# EAGLE library part WE-RJ45_74980100000 (library Wurth_Signal & Communications_WE-RJ45_LAN)
WE-RJ45 LAN Through Hole Reflow Characteristics RJ45 designed to use for Pin-in-Paste soldering High mechanical stability through THT pins High Temperature LEDs Extra high standoff for a good thermal airflow Power over Ethernet up to 30 W Compliant with standard: IEEE 802.3u, IEEE 802.3ab, IEEE 802.3af, IEEE 802.3at Applications Suitable for industrial temperatures from –40 °C up to +85 °C Compatible to Industrial Ethernet systems like EtherCAT or Profinet Compliant with most IC’s for Ethernet applications such as Microchip, Texas Instruments, Broadcom, Linear Technology Hubs, Routers, Switches, IP cameras, IoT applications <https://www.we-online.com/components/media/o713596v209%20family-we-rj45-lan-74980xxx.jpg> Details see: www.we-online.com/components/products/WE-LAN-RJ45_THR <www.we-online.com/catalog/WE-LAN-RJ45_THR/?utm_source=eagle_model&utm_medium=description_link&utm_campaign=eisos_eagle> Updated By Ella Wu 2019-11-06 2019 (C) Wurth Elektronik
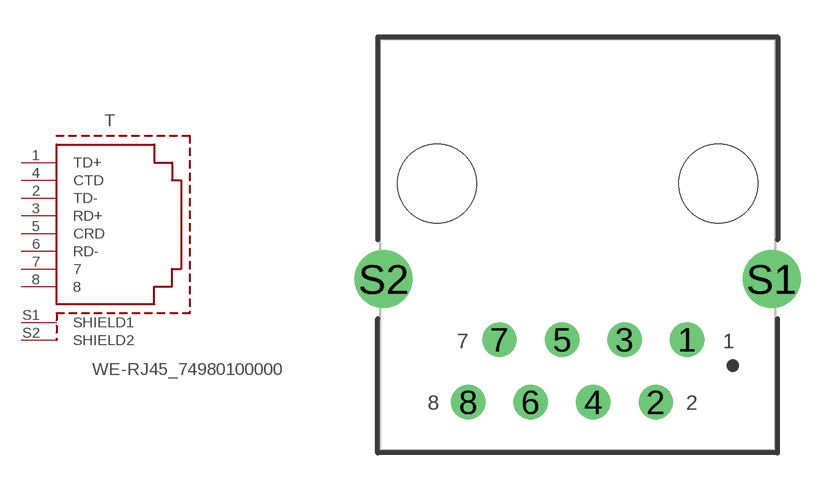
[diagram p60: symbol with the pads of 74980100000; footprint 74980100000]

Designator prefix T

## WE-RJ45_74980100000 (DATA-RATE: 10/100 Base-T; DATASHEET-URL: https://www.we-online.com/redexpert/spec/74980100000?ae; LED: ; MOUNT: THR; PART-NUMBER: 74980100000; POE: non-PoE; PORTS: 1; USB: No; VALUE: 74980100000)  [74980100000]
1  TD+  pas
2  TD-  pas
3  RD+  pas
4  CTD  pas
5  CRD  pas
6  RD-  pas
7  7  pas
8  8  pas
S1  SHIELD1  pas
S2  SHIELD2  pas

## Footprint 74980100000 (pad centres in mm)
WE-RJ45 LAN Transformer 10/100 Base-T
drill 0.89: 1 4.445,-6.35; 2 3.175,-8.89; 3 1.905,-6.35; 4 0.635,-8.89; 5 -0.635,-6.35; 6 -1.905,-8.89; 7 -3.175,-6.35; 8 -4.445,-8.89
drill 1.57: S1 7.875,-3.89; S2 -7.875,-3.89
hole 3.2 at -5.715,0
hole 3.2 at 5.715,0